# Altium footprint library Fuse_1206.PcbLib: 1 footprints
Each footprint in its own frame and in the unit in brackets; x right, y up, seen from the top. Pads: shape width x height; smd on the part's side, far side on the other; paste and mask are expansions set on the pad; w line width, h text height; cw(c..) or ccw(c..) is an arc to the next point about the centre after c.
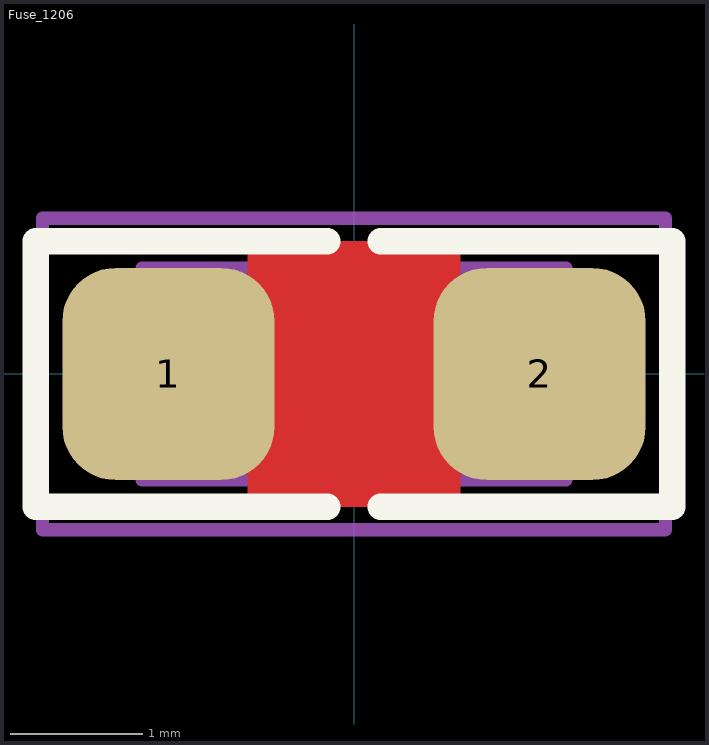
[diagram p0: the footprint, top view; thin cyan lines are the x and y axes]

## Fuse_1206 [mm] "FUSE, 1206, 3.2x1.6mm"
height 2.5
pads (2):
  rrect50% 1.6x1.6 smd paste-2 mask+0.075: 1(-1.4,0) 2(1.4,0)
Top Layer:
  pour cut-out: -0.8,1 -0.8,-1 0.8,-1 0.8,1
Top Overlay:
  lines w0.2: -2.4,-1 -0.2,-1 ; -2.4,-1 -2.4,1 -0.2,1 ; 0.2,-1 2.4,-1 ; 0.2,1 2.4,1 2.4,-1
Top Paste:
  region: -1.15,0.7 -1.1,0.7 -1.008,0.662 -0.938,0.592 -0.9,0.5 -0.9,0.45 -0.9,-0.45 -0.9,-0.5 -0.938,-0.592 -1.008,-0.662 -1.1,-0.7 -1.15,-0.7 -1.625,-0.7 -1.68,-0.7 -1.781,-0.658 -1.858,-0.581 -1.9,-0.48 -1.9,-0.425 -1.9,0.45 -1.9,0.5 -1.862,0.592 -1.792,0.662 -1.7,0.7 -1.65,0.7
  region: 1.15,0.7 1.1,0.7 1.008,0.662 0.938,0.592 0.9,0.5 0.9,0.45 0.9,-0.45 0.9,-0.5 0.938,-0.592 1.008,-0.662 1.1,-0.7 1.15,-0.7 1.625,-0.7 1.68,-0.7 1.781,-0.658 1.858,-0.581 1.9,-0.48 1.9,-0.425 1.9,0.45 1.9,0.5 1.862,0.592 1.792,0.662 1.7,0.7 1.65,0.7
Mechanical 13:
  lines w0.1: -1.6,-0.8 -1.6,0.8 1.6,0.8 1.6,-0.8 -1.6,-0.8
Mechanical 15:
  lines w0.1: -0.5,0 0.5,0 ; 0,-0.5 0,0.5 ; -2.35,-1.175 -2.35,1.175 2.35,1.175 2.35,-1.175 -2.35,-1.175
3D body "User Library-FUSER_nanoSMD.step": height 1, standoff 0, extent -1.603,-0.8 1.602,0.8